# EAGLE library part IMP001 (library JL)
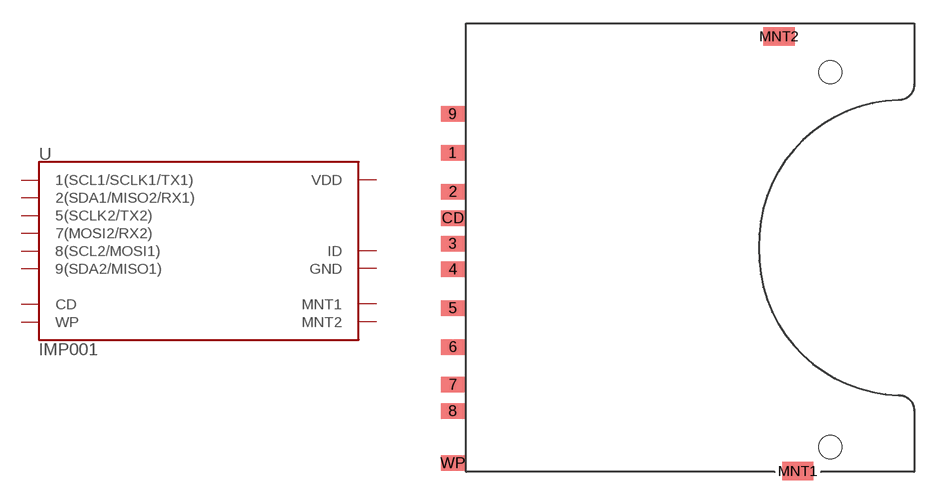
[diagram p0: symbol with the pads of SD_CARD_SOCKET; footprint SD_CARD_SOCKET]

Designator prefix -

## IMP001  [SD_CARD_SOCKET]
1  1(SCL1/SCLK1/TX1)
2  2(SDA1/MISO2/RX1)
3  GND
4  VDD
5  5(SCLK2/TX2)
6  ID
7  7(MOSI2/RX2)
8  8(SCL2/MOSI1)
9  9(SDA2/MISO1)
CD  CD
MNT1  MNT1
MNT2  MNT2
WP  WP

## Footprint SD_CARD_SOCKET (pad centres in mm)
smd 1.5 x 1: 1 -29.71,6.1; 2 -29.71,3.6; 3 -29.71,0.25; 4 -29.71,-1.4; 5 -29.71,-3.9; 6 -29.71,-6.4; 7 -29.71,-8.83; 8 -29.71,-10.53; 9 -29.71,8.6; CD -29.71,1.9; WP -29.71,-13.88
smd 2 x 1.2: MNT1 -7.5,-14.4; MNT2 -8.7,13.6
hole 1.5 at -5.4,11.3
hole 1.5 at -5.4,-12.85